# Altium footprint library 1206_A.PcbLib: 1 footprints
Each footprint in its own frame and in the unit in brackets; x right, y up, seen from the top. Pads: shape width x height; smd on the part's side, far side on the other; paste and mask are expansions set on the pad; w line width, h text height; cw(c..) or ccw(c..) is an arc to the next point about the centre after c.
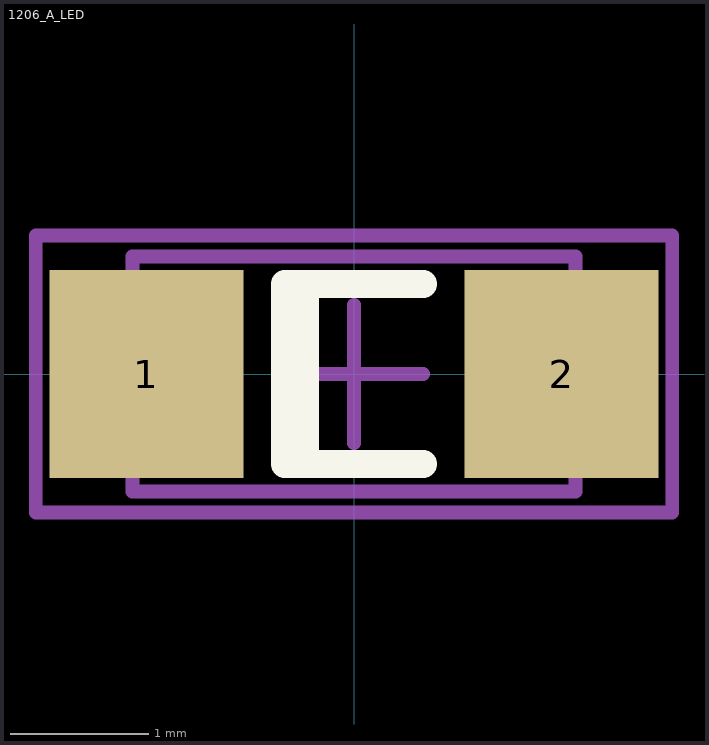
[diagram p0: the footprint, top view; thin cyan lines are the x and y axes]

## 1206_A_LED [mm] "Chip LED, 2-Leads, Body 3.2x1.6mm, IPC Medium Density"
height 0.69
pads (2):
  rect 1.4x1.5 smd: 1(-1.5,0) 2(1.5,0)
Top Overlay:
  rectangle: -0.458,-0.665 -0.254,0.635
  lines w0.2: 0.5,-0.65 -0.5,-0.65 -0.5,0.65 0.5,0.65
Mechanical 13:
  lines w0.1: -1.6,-0.85 -1.6,0.85 1.6,0.85 1.6,-0.85 -1.6,-0.85
Mechanical 15:
  lines w0.1: -0.5,0 0.5,0 ; 0,-0.5 0,0.5 ; -2.3,-1 -2.3,1 2.3,1 2.3,-1 -2.3,-1
3D body "WL-SMCW_1206_LED.stp": height 0.68, standoff 0, extent -1.6,-0.8 1.6,0.8